# EAGLE library part 0.5-INCH-OLED (library Seeed-OPL-2017-01-display-edward)
320170003
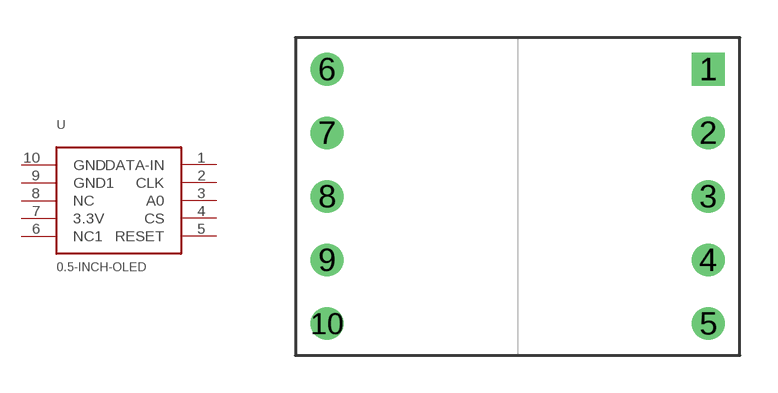
[diagram p1: symbol with the pads of 0.5-INCH-OLED; footprint 0.5-INCH-OLED]

Designator prefix -

## 0.5-INCH-OLED  [0.5-INCH-OLED]
1  DATA-IN
2  CLK
3  A0
4  CS
5  RESET
6  NC1
7  3.3V
8  NC
9  GND1
10  GND

## Footprint 0.5-INCH-OLED (pad centres in mm)
drill 0.8 square: 1 15.24,0
drill 0.8: 2 15.24,-2.54; 3 15.24,-5.08; 4 15.24,-7.62; 5 15.24,-10.16; 6 0,0; 7 0,-2.54; 8 0,-5.08; 9 0,-7.62; 10 0,-10.16